# Altium footprint library 1uF 0603 CAP.PcbLib: 3 footprints
Each footprint in its own frame and in the unit in brackets; x right, y up, seen from the top. Pads: shape width x height; smd on the part's side, far side on the other; paste and mask are expansions set on the pad; w line width, h text height; cw(c..) or ccw(c..) is an arc to the next point about the centre after c.
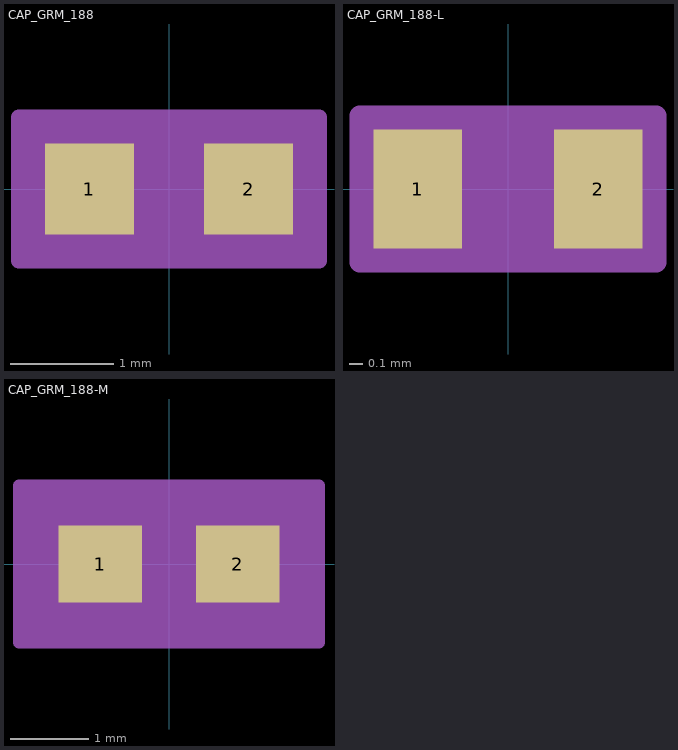
[diagram p0: the footprints below, top view; thin cyan lines are the x and y axes]

## CAP_GRM_188 [mil]
pads (2):
  rect 34x35 smd paste+0 mask+0: 1(-30.5,0) 2(30.5,0)
Mechanical 13:
  lines w1: -33.5,-17.5 -33.5,17.5 ; -33.5,-17.5 -13.5,-17.5 -13.5,17.5 -33.5,17.5 ; -33.5,-17.5 33.5,-17.5 ; -33.5,-17.5 -33.5,17.5 ; -33.5,17.5 33.5,17.5 ; 33.5,-17.5 13.5,-17.5 13.5,17.5 33.5,17.5 ; 33.5,-17.5 33.5,17.5 ; 33.5,-17.5 33.5,17.5
Mechanical 15:
  region: 57.5,-27.5 -57.5,-27.5 -57.5,27.5 57.5,27.5
  lines w6: -57.5,-27.5 -57.5,27.5 57.5,27.5 57.5,-27.5 -57.5,-27.5
3D body: height 10, standoff 0, extent 0,0 10,10

## CAP_GRM_188-L [mil]
pads (2):
  rect 26x35 smd paste+0 mask+0: 1(-26.5,0) 2(26.5,0)
Mechanical 13:
  lines w1: -33.5,-17.5 -33.5,17.5 ; -33.5,-17.5 -13.5,-17.5 -13.5,17.5 -33.5,17.5 ; -33.5,-17.5 33.5,-17.5 ; -33.5,-17.5 -33.5,17.5 ; -33.5,17.5 33.5,17.5 ; 33.5,-17.5 13.5,-17.5 13.5,17.5 33.5,17.5 ; 33.5,-17.5 33.5,17.5 ; 33.5,-17.5 33.5,17.5
Mechanical 15:
  region: 43.5,-21.5 -43.5,-21.5 -43.5,21.5 43.5,21.5
  lines w6: -43.5,-21.5 -43.5,21.5 43.5,21.5 43.5,-21.5 -43.5,-21.5
3D body: height 10, standoff 0, extent 0,0 10,10

## CAP_GRM_188-M [mil]
pads (2):
  rect 42x39 smd paste+0 mask+0: 1(-34.5,0) 2(34.5,0)
Mechanical 13:
  lines w1: -33.5,-17.5 -33.5,17.5 ; -33.5,-17.5 -13.5,-17.5 -13.5,17.5 -33.5,17.5 ; -33.5,-17.5 33.5,-17.5 ; -33.5,-17.5 -33.5,17.5 ; -33.5,17.5 33.5,17.5 ; 33.5,-17.5 13.5,-17.5 13.5,17.5 33.5,17.5 ; 33.5,-17.5 33.5,17.5 ; 33.5,-17.5 33.5,17.5
Mechanical 15:
  region: 75.5,-39.5 -75.5,-39.5 -75.5,39.5 75.5,39.5
  lines w6: -75.5,-39.5 -75.5,39.5 75.5,39.5 75.5,-39.5 -75.5,-39.5
3D body: height 10, standoff 0, extent 0,0 10,10